# Altium integrated library GRM21BC71E106KE11L.IntLib: 1 symbol
Pins are listed as number, name and electrical type; pins without a type are passive.

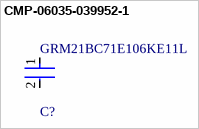
[diagram p0: symbol CMP-06035-039952-1]

## CMP-06035-039952-1
designator C?, comment GRM21BC71E106KE11L
Chip Multilayer Ceramic Capacitors for General Purpose, 0805, 10uF, X7S, 22%, 10%, 25V; Dissipation Factor: 0.025%; Dielectric Material: Ceramic; Termination: SMD/SMT; Voltage: 25V; Weight: 0.000335oz; Min Operating Temperature: -55°C; Case Code (Metric): 2012; Depth: 1.25mm; Max Operating Temperature: 125°C; Dielectric: X7S; Length: 2mm; Capacitance: 10uF; Voltage Rating (DC): 25V; Thickness: 0.057inch; Mount: Surface Mount; REACH SVHC: No SVHC; Width: 0.049inch; Case/Package: 0805; Case Code (Imperial): 0805; Voltage Rating: 25V; Height: 1.25mm; Lead Free: Lead Free; Package Quantity: 3000; Packaging: Tape and Reel; Tolerance: 10%
footprint FP-GRM21B-0_2-e0_2_0_7-IPC_A
footprint FP-GRM21B-0_2-e0_2_0_7-MFG
footprint FP-GRM21B-0_2-e0_2_0_7-IPC_C
footprint FP-GRM21B-0_2-e0_2_0_7-IPC_B
pins: 1, 2